# Altium schematic symbol library amp_audio.SchLib: 15 symbols
Pins are listed as number, name and electrical type; pins without a type are passive.

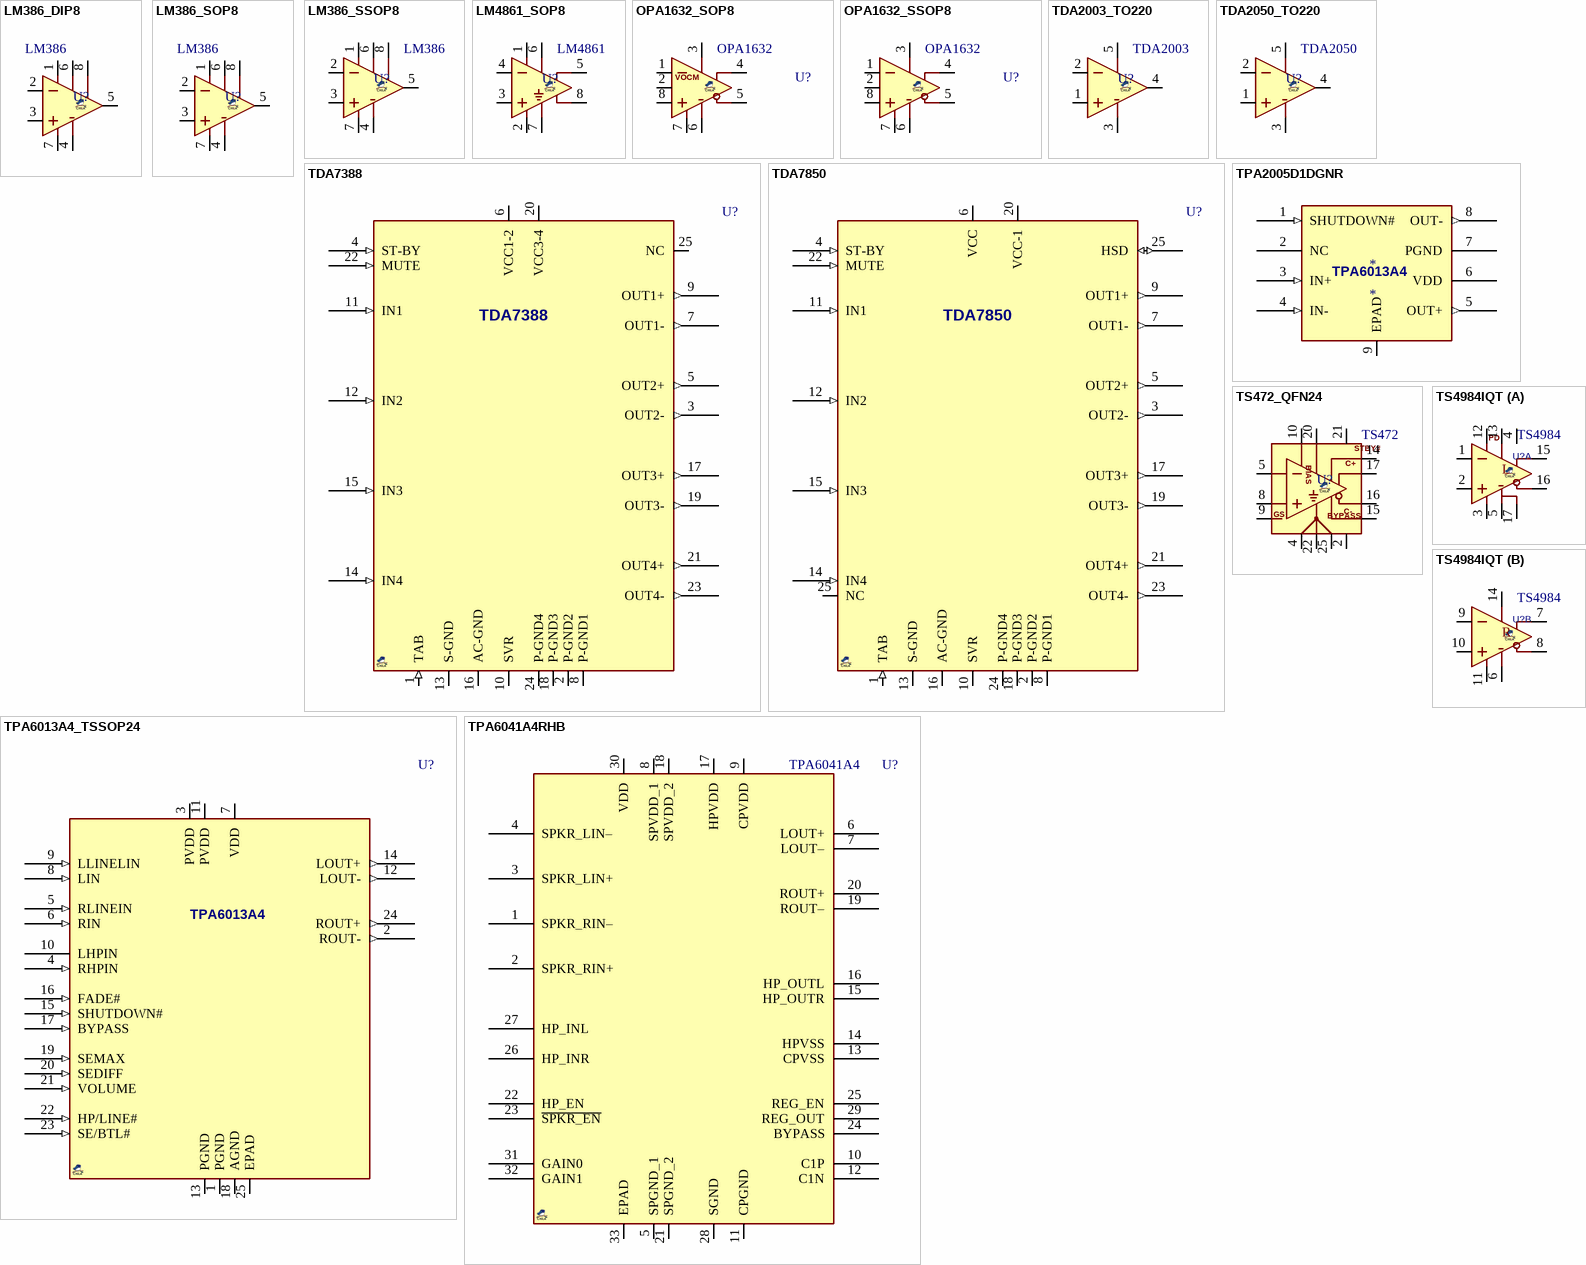
[diagram p0: symbols LM386_DIP8 to TS4984IQT]

## LM386_DIP8
designator U?, comment LM386
AMP, Audio, Low Voltage, Power Amp; MANF: Texas Instruments; MANF_P#: LM386N-1; VALUE: LM386
footprint DIP_8 (DIP, pitch 2.54mm, 300mil Width)
pins: 1 GAIN, 2 IN-, 3 IN+, 4 GND, 5 VOUT, 6 VS, 7 BYPASS, 8 GAIN

## LM386_SOP8
designator U?, comment LM386
AMP, Audio, Low Voltage, Power Amp; MANF: Texas Instruments; MANF_P#: LM386MX-1; VALUE: LM386
footprint SO_8
pins: 1 GAIN, 2 IN-, 3 IN+, 4 GND, 5 VOUT, 6 VS, 7 BYPASS, 8 GAIN

## LM386_SSOP8
designator U?, comment LM386
AMP, Audio, Low Voltage, Power Amp; MANF: TEXAS INSTRUMENTS; MANF_P#: LM386MMX-1; VALUE: LM386
footprint SOG65_8_3 (pitch: 0.65mm, 3.0mmX3.0mm, SSOP DCT SM8 (TI), TSSOP8, MICRO8, DGK, MSOP8, RM-8, MS8, MSOP-8, usop8/8uSOP)
signal-integrity model Guessed Model (IC Model Details Guessed by Setup Helper)
pins: 1 GAIN, 2 IN-, 3 IN+, 4 GND, 5 VOUT, 6 VS, 7 BYPASS, 8 GAIN

## LM4861_SOP8
designator U?, comment LM4861
AMP, Audio, Power Amp, 1Watt; MANF: Texas Instruments; MANF_P#: LM4861MX, LM4861M; VALUE: LM4861
footprint SO_8
pins: 1 SHDN# "Shutdown", 2 BP "Bypass", 3 IN+ "Positive input", 4 IN- "Negative input", 5 VO1 "Output1", 6 VDD, 7 GND, 8 VO2 "Output2"

## OPA1632_SOP8
designator U?, comment OPA1632
AMP, Audio, Differential; MANF: Texas Instruments; MANF_P#: OPA1632D; VALUE: OPA1632
footprint SO_8
pins: 1 IN-, 2 OCM (power), 3 V+, 4 OP, 5 ON, 6 V-, 7 EN, 8 IN+
text: VOCM

## OPA1632_SSOP8
designator U?, comment OPA1632
AMP, Audio, Differential; MANF: Texas Instruments; MANF_P#: OPA1632DGN; VALUE: OPA1632
footprint SOG65_8T_3
pins: 1 IN-, 2 OCM (power), 3 V+, 4 OP, 5 ON, 6 V-, 7 EN, 8 IN+

## TDA2003_TO220
designator U?, comment TDA2003
AMP, Audio, Power Amp 10W; MANF: ST; MANF_P#: TDA2003; VALUE: TDA2003
footprint TO220_5_T05D (TO-220 BEND, T05D)
pins: 1 IN+, 2 IN-, 3 V-, 4 VOUT, 5 V+

## TDA2050_TO220
designator U?, comment TDA2050
AMP, Audio, Power Amp 32W; MANF: ST; PARAM2: ±22Vcc; MANF_P#: TDA2050; PARAM: 32W; VALUE: TDA2050
footprint TO220_5_T05D (TO-220 BEND, T05D)
pins: 1 IN+, 2 IN-, 3 V-, 4 VOUT, 5 V+

## TDA7388
designator U?  (value not drawn)
AMP, AUDIO, 4X 45Watt, 0.1 % THD; MANF: ST; PARAM2: 18~28V; PARAM: 4X 45Watt 4Ohm, AB class; MANF_P#: TDA7388; PRICE: 3.5$; VALUE: TDA7388
footprint FLEXIWATT_25V (FLEXIWATT25 straight pitch: 1mm 29.2x4.5mm)
pins: 1 TAB (in), 2 P-GND2 (power), 3 OUT2- (out), 4 ST-BY (in), 5 OUT2+ (out), 6 VCC1-2 (power), 7 OUT1- (out), 8 P-GND1 (power), 9 OUT1+ (out), 10 SVR, 11 IN1 (in), 12 IN2 (in), 13 S-GND (power), 14 IN4 (in), 15 IN3 (in), 16 AC-GND (power), 17 OUT3+ (out), 18 P-GND3 (power), 19 OUT3- (out), 20 VCC3-4 (power), 21 OUT4+ (out), 22 MUTE (in), 23 OUT4- (out), 24 P-GND4 (power), 25 NC

## TDA7850
designator U?  (value not drawn)
AMP, AUDIO, 4X 50Watt, 1 % THD; MANF: ST; PARAM2: 18~28V; PARAM: 4X 50Watt 4Ohm, AB class; MANF_P#: TDA7850; PRICE: 3.5$; VALUE: TDA7850
footprint FLEXIWATT_25V (FLEXIWATT25 straight pitch: 1mm 29.2x4.5mm)
pins: 1 TAB (in), 2 P-GND2 (power), 3 OUT2- (out), 4 ST-BY (in), 5 OUT2+ (out), 6 VCC (power), 7 OUT1- (out), 8 P-GND1 (power), 9 OUT1+ (out), 10 SVR, 11 IN1 (in), 12 IN2 (in), 13 S-GND (power), 14 IN4 (in), 15 IN3 (in), 16 AC-GND (power), 17 OUT3+ (out), 18 P-GND3 (power), 19 OUT3- (out), 20 VCC-1 (power), 21 OUT4+ (out), 22 MUTE (in), 23 OUT4- (out), 24 P-GND4 (power), 25 NC, 25 HSD (io)

## TPA2005D1DGNR
designator *
footprint SOG65_8T_3
pins: 1 SHUTDOWN# (in), 2 NC (hiz), 3 IN+ (in), 4 IN- (in), 5 OUT+ (out), 6 VDD (power), 7 PGND (power), 8 OUT- (out), 9 EPAD
text: TPA6013A4

## TPA6013A4_TSSOP24
designator U?, comment TPA6013A4  (value not drawn)
AMP, AUDIO, 3W, AB TSSOP-24; MANF: Texas Instruments; MANF_P#: TPA6013A4PWP; PARAM2: 4.5~5.5V; PARAM: 3W; PRICE: 3$; VALUE: TPA6013A4
footprint SOG65_24T (TSSOP 4.4mm(MAXIM), MO-153-ADT (JEDEC), 24Lead, pitch: 0.65mm, 8x4.4x1.2mm)
pins: 1 PGND (power), 2 ROUT- (out), 3 PVDD (power), 4 RHPIN (in), 5 RLINEIN (in), 6 RIN (in), 7 VDD (power), 8 LIN (in), 9 LLINELIN (in), 10 LHPIN, 11 PVDD (power), 12 LOUT- (out), 13 PGND (power), 14 LOUT+ (out), 15 SHUTDOWN# (in), 16 FADE# (in), 17 BYPASS (in), 18 AGND (power), 19 SEMAX (in), 20 SEDIFF (in), 21 VOLUME (in), 22 HP/LINE# (in), 23 SE/BTL# (in), 24 ROUT+ (out), 25 EPAD

## TPA6041A4RHB
designator U?, comment TPA6041A4
AMP, AUDIO, 2.6W, AB 32VQFN; MANF: Texas Instruments; MANF_P#: TPA6041A4RHB; PARAM2: 4.5~5.5V; PARAM: 2.6W; PRICE: 3$; VALUE: TPA6041A4
footprint QFN50_32T (QFN, 32, 5X5mm, 0.5mm)
pins: 1 SPKR_RIN–, 2 SPKR_RIN+, 3 SPKR_LIN+, 4 SPKR_LIN–, 5 SPGND_1, 6 LOUT+, 7 LOUT–, 8 SPVDD_1, 9 CPVDD, 10 C1P, 11 CPGND, 12 C1N, 13 CPVSS, 14 HPVSS, 15 HP_OUTR, 16 HP_OUTL, 17 HPVDD, 18 SPVDD_2, 19 ROUT–, 20 ROUT+, 21 SPGND_2, 22 HP_EN, 23 ~{SPKR_EN}, 24 BYPASS, 25 REG_EN, 26 HP_INR, 27 HP_INL, 28 SGND, 29 REG_OUT, 30 VDD, 31 GAIN0, 32 GAIN1, 33 EPAD

## TS472_QFN24
designator U?, comment TS472
AMP, Low noise microphone preamp; MANF: STMicroelectronics; MANF_P#: TS472IQT; PARAM2: 2.2~5.5V, 10nV/√Hz, 40KHz BW; PARAM: 2V mic bias output, -40~85°C; PRICE: 1.3$; VALUE: TS472
footprint QFN50_24T (MO-220 (JEDEC), RGE S-PQFP-N24 (TI), 4X4mm, 0.5mm, HVQFN24)
pins: 2 BYPASS, 4 GND, 5 IN-, 8 IN+, 9 GAINSELECT, 10 BIAS, 14 C+, 15 C-, 16 OUT-, 17 OUT+, 20 VCC, 21 ~{STBY}, 22 GND, 25 EP
text: STBY#; GS

## TS4984IQT
designator U?, comment TS4984
AMP, AUDIO, PWR 1.2W, 2.2-5.5V AB 16TQFN; MANF: ST Microelectronics; MANF_P#: TS4984IQT; PARAM2: 2.2-5.5V; PARAM: 1.2W; VALUE: TS4984
footprint QFN50_16T_4X4 (QFN, 16, 4X4mm, 0.5mm)
part A pins: 1 IN-L, 2 IN+L, 3 BYPASSL, 4 NC, 5 GND1 (power), 12 STBY#, 13 VCC1 (power), 15 VO+L, 16 VO-L, 17 EP (power)
part B pins: 6 GND2 (power), 7 VO+R, 8 VO-R, 9 IN-R, 10 IN+R, 11 BYPASSR, 14 VCC2 (power)
part A text: PD; L
part B text: R